# Altium schematic symbol library C-C0603C105K3RACTU.Schlib: 1 symbol
Pins are listed as number, name and electrical type; pins without a type are passive.

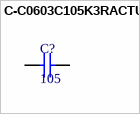
[diagram p0: symbol C-C0603C105K3RACTU]

## C-C0603C105K3RACTU
designator C?, comment 105
Multilayer Ceramic Capacitors MLCC - SMD/SMT 1uF 25 Volts 10% X7R
pins: 1, 2